# EAGLE library part MP-LS05 (library Simon's Libraries)
LS05-13BxxR3 AC/DC PCB Mount Power Supply (PSU), 70 to 430VDC, ITE, Household & Transformers, 1 Output, 5 W Farnell <https://uk.farnell.com/multicomp-pro/mp-ls05-13b12r3/power-supply-ac-dc-12v-0-42a/dp/3584011>
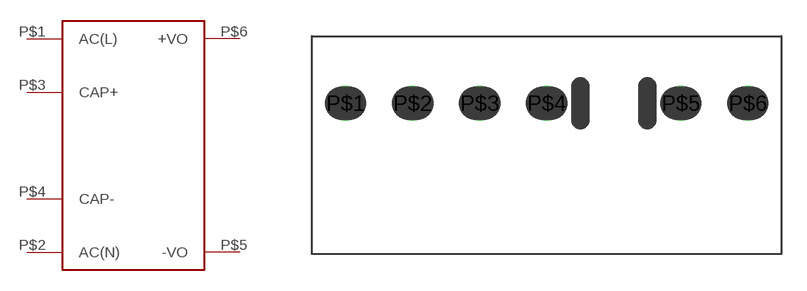
[diagram p1: symbol with the pads of MP-LS05; footprint MP-LS05]

Designator prefix -

## MP-LS05  [MP-LS05]
P$1  AC(L)
P$2  AC(N)
P$3  CAP+
P$4  CAP-
P$5  -VO
P$6  +VO

## Footprint MP-LS05 (pad centres in mm)
drill 1.4: P$1 0,0; P$2 4,0; P$3 8,0; P$4 12,0; P$5 20,0; P$6 24,0